# EAGLE library part ATMEGA328 (library ioshub)
ATMEGA 328 Barebone
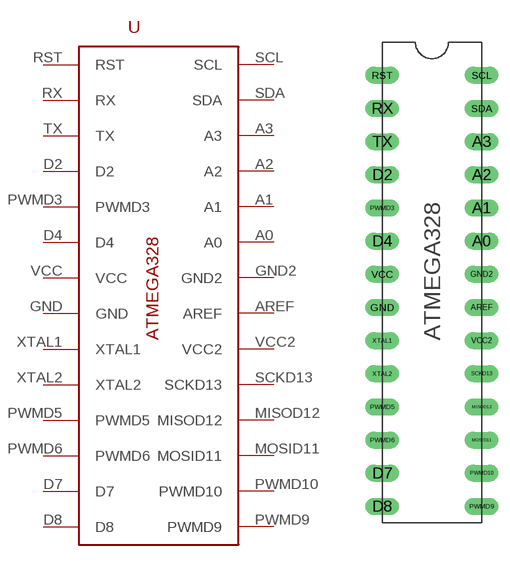
[diagram p0: symbol with the pads of ATMEGA328; footprint ATMEGA328]

Designator prefix -

## ATMEGA328DIP28  [ATMEGA328]
A0  A0
A1  A1
A2  A2
A3  A3
AREF  AREF
D2  D2
D4  D4
D7  D7
D8  D8
GND  GND
GND2  GND2
MISOD12  MISOD12
MOSID11  MOSID11
PWMD3  PWMD3
PWMD5  PWMD5
PWMD6  PWMD6
PWMD9  PWMD9
PWMD10  PWMD10
RST  RST
RX  RX
SCKD13  SCKD13
SCL  SCL
SDA  SDA
TX  TX
VCC  VCC
VCC2  VCC2
XTAL1  XTAL1
XTAL2  XTAL2

## ATMEGA328ATMEGA328P-PU  [ATMEGA328]
Pads as for ATMEGA328

## Footprint ATMEGA328 (pad centres in mm)
drill 0.8 long: A0 3.81,2.54; A1 3.81,5.08; A2 3.81,7.62; A3 3.81,10.16; AREF 3.81,-2.54; D2 -3.81,7.62; D4 -3.81,2.54; D7 -3.81,-15.24; D8 -3.81,-17.78; GND -3.81,-2.54; GND2 3.81,0; MISOD12 3.81,-10.16; MOSID11 3.81,-12.7; PWMD3 -3.81,5.08; PWMD5 -3.81,-10.16; PWMD6 -3.81,-12.7; PWMD9 3.81,-17.78; PWMD10 3.81,-15.24; RST -3.81,15.24; RX -3.81,12.7; SCKD13 3.81,-7.62; SCL 3.81,15.24; SDA 3.81,12.7; TX -3.81,10.16; VCC -3.81,0; VCC2 3.81,-5.08; XTAL1 -3.81,-5.08; XTAL2 -3.81,-7.62